# Altium schematic symbol library SchLib1.SchLib: 32 symbols
Pins are listed as number, name and electrical type; pins without a type are passive.

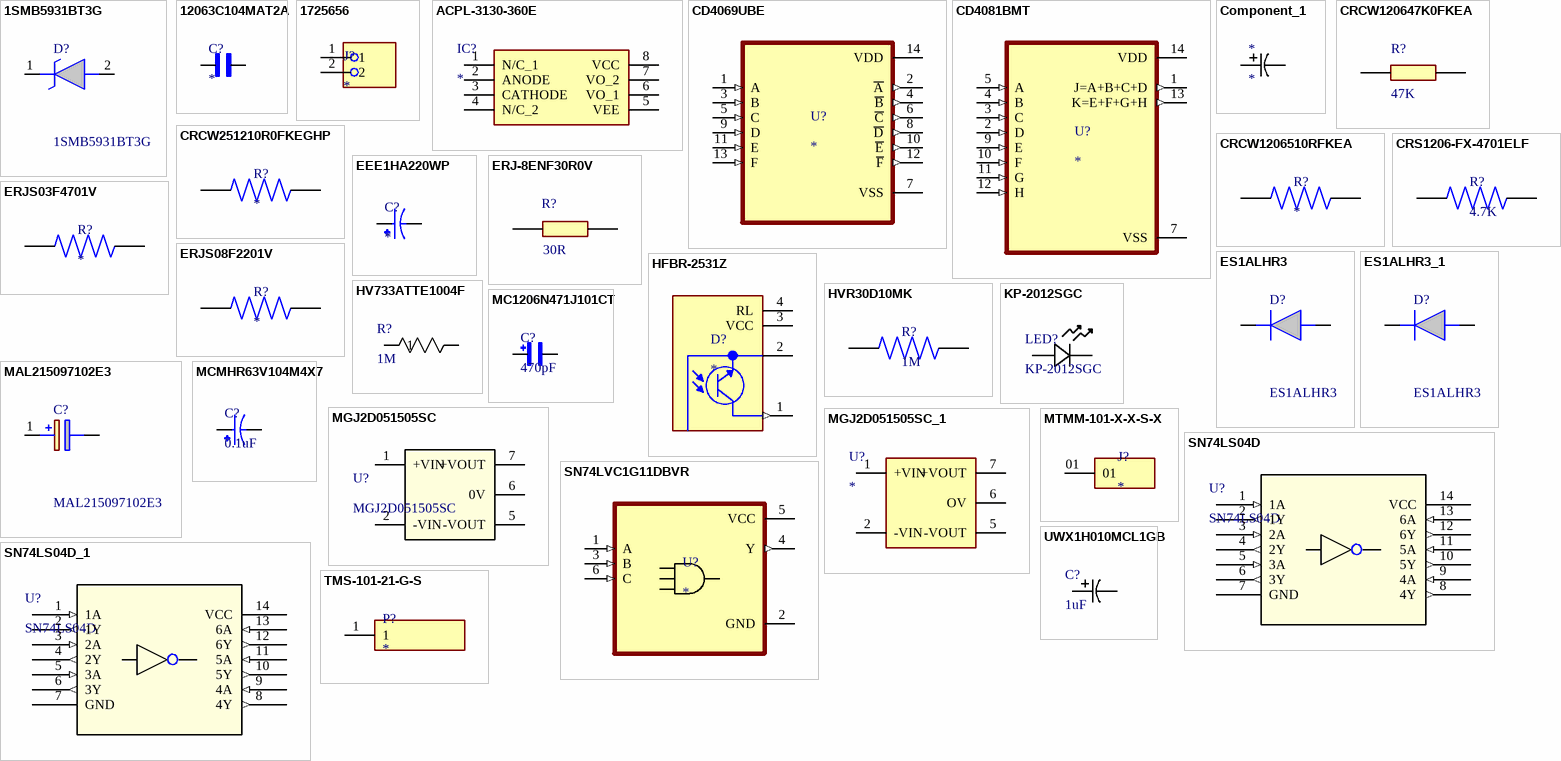
[diagram p0: symbols 1SMB5931BT3G to UWX1H010MCL1GB]

## 1SMB5931BT3G
designator D?
Zener Voltage Range - 3.3 V to 200 V; ESD Rating of Class 3 (>16 KV) per Human Body Model; Flat Handling Surface for Accurate Placement; Package Design for Top Side or Bottom Circuit Board Mounting Mechanical Characteristics:; CASE: Void-free, transfer-molded plastic; FINISH: All external surfaces are corrosion resistant with readily solderable leads; MAXIMUM CASE TEMPERATURE FOR SOLDERING PURPOSES: 260C for 10 seconds; LEADS: Modified L-Bend providing more contact area to bond pads; POLARITY: Cathode indi; Manufacturer_Name: onsemi; Geometry.Height: 2.47mm; Manufacturer_Part_Number: 1SMB5931BT3G; Mouser Part Number: 863-1SMB5931BT3G; Mouser Price/Stock: https://www.mouser.co.uk/ProductDetail/onsemi/1SMB5931BT3G?qs=vLkC5FC1VN903PRAv1AUyg%3D%3D; Arrow Part Number: 1SMB5931BT3G; Arrow Price/Stock: https://www.arrow.com/en/products/1smb5931bt3g/on-semiconductor?region=nac; Datasheet Link: https://www.onsemi.com/pub/Collateral/1SMB5913BT3-D.PDF
footprint DIOM5436X247N
pins: 1 K, 2 A

## 12063C104MAT2A
designator C?
0.1 ÂµF Â±20% 25V Ceramic Capacitor X7R 1206 (3216 Metric); MF: KYOCERA AVX; MP: 12063C104MAT2A; SnapEDA_Link: https://www.snapeda.com/parts/12063C104MAT2A/Kyocera/view-part/?ref=snap; Package: 3216 AVX; Value: *; Check_prices: https://www.snapeda.com/parts/12063C104MAT2A/Kyocera/view-part/?ref=eda
footprint CAPC3216X94N
pins: 1, 2

## 1725656
designator J?
Conn PC Terminal Block 2 POS 2.54mm Solder ST Thru-Hole 6A Cardboard
footprint PHOENIX_1725656
pins: 1, 2

## ACPL-3130-360E
designator IC?
Integrated Circuit; Manufacturer_Name: Avago Technologies; Manufacturer_Part_Number: ACPL-3130-360E; Datasheet Link: https://datasheet.datasheetarchive.com/originals/distributors/Datasheets-DGA20/76560.pdf; Height: 4.7mm; Mouser Part Number: 630-ACPL-3130-360E; Mouser Price/Stock: https://www.mouser.co.uk/ProductDetail/Broadcom-Avago/ACPL-3130-360E?qs=RuhU64sK2%252BvV1O6%252BbM9CBg%3D%3D
footprint DIP794W53P254L959H508Q8N
pins: 1 N/C_1, 2 ANODE, 3 CATHODE, 4 N/C_2, 5 VEE, 6 VO_1, 7 VO_2, 8 VCC

## CD4069UBE
designator U?
6-ch, 3-V to 18-V inverters; MF: Texas Instruments; MP: CD4069UBE; SnapEDA_Link: https://www.snapeda.com/parts/CD4069UBE/Texas+Instruments/view-part/?ref=snap; Package: PDIP-14 Texas Instruments; Value: *; Check_prices: https://www.snapeda.com/parts/CD4069UBE/Texas+Instruments/view-part/?ref=eda
footprint DIP794W45P254L1969H508Q14
pins: 1 A (in), 2 ~{A} (out), 3 B (in), 4 ~{B} (out), 5 C (in), 6 ~{C} (out), 7 VSS (power), 8 ~{D} (out), 9 D (in), 10 ~{E} (out), 11 E (in), 12 ~{F} (out), 13 F (in), 14 VDD (power)

## CD4081BMT
designator U?
4-ch, 2-input, 3-V to 18-V AND gates; MF: Texas Instruments; MP: CD4081BMT; SnapEDA_Link: https://www.snapeda.com/parts/CD4081BMT/Texas+Instruments/view-part/?ref=snap; Package: SOIC-14 Texas Instruments; Value: *; Check_prices: https://www.snapeda.com/parts/CD4081BMT/Texas+Instruments/view-part/?ref=eda
footprint SOIC127P600X175-14N
pins: 1 J=A+B+C+D (out), 2 D (in), 3 C (in), 4 B (in), 5 A (in), 7 VSS (power), 9 E (in), 10 F (in), 11 G (in), 12 H (in), 13 K=E+F+G+H (out), 14 VDD (power)

## Component_1
designator *
pins: 1, 2

## CRCW120647K0FKEA
designator R?, comment 47K
CRCW120647K0FKEAVishay CRCW Series Thick Film Surface Mount Resistor 1206 Case 47k +/-1% 0.25W +/-100ppm/C; Manufacturer_Name: Vishay; Geometry.Height: 0.6mm; Manufacturer_Part_Number: CRCW120647K0FKEA; Mouser Part Number: 71-CRCW1206-47K-E3; Mouser Price/Stock: https://www.mouser.co.uk/ProductDetail/Vishay-Dale/CRCW120647K0FKEA?qs=9sFvXT%252Bien1tefUS4L1XFw%3D%3D; Arrow Part Number: CRCW120647K0FKEA; Arrow Price/Stock: https://www.arrow.com/en/products/crcw120647k0fkea/vishay; Datasheet Link: http://www.vishay.com/docs/20035/dcrcwe3.pdf
footprint RESC3216X60N
pins: 1, 2

## CRCW251210R0FKEGHP
designator R?
10 Ohms Â±1% 1.5W Chip Resistor 2512 (6432 Metric) Automotive AEC-Q200, Pulse Withstanding Thick Film; MF: Vishay; MP: CRCW251210R0FKEGHP; SnapEDA_Link: https://www.snapeda.com/parts/CRCW251210R0FKEGHP/Vishay/view-part/?ref=snap; Package: 6331 Vishay; Value: *; Check_prices: https://www.snapeda.com/parts/CRCW251210R0FKEGHP/Vishay/view-part/?ref=eda
footprint RESC6331X70N
pins: 1, 2

## CRCW1206510RFKEA
designator R?
Resistor;Thick Film;510 Ohms;0.25 W;1%;SMT;1206;TCR 37 ppm/DegC;Tape and Reel | Vishay Dale CRCW1206510RFKEA; SnapEDA_Link: https://www.snapeda.com/parts/CRCW1206510RFKEA/Vishay/view-part/?ref=snap; Package: 3116 Vishay; Value: *; MF: Vishay; MP: CRCW1206510RFKEA; Check_prices: https://www.snapeda.com/parts/CRCW1206510RFKEA/Vishay/view-part/?ref=eda
footprint RESC3116X60N
pins: 1, 2

## CRS1206-FX-4701ELF
designator R?, comment 4.7K
RES, SMD, 4.7K ohm, 0.5W, 1%, 1206, TCR100 | Bourns CRS1206-FX-4701ELF; SnapEDA_Link: https://www.snapeda.com/parts/CRS1206-FX-4701ELF/Bourns/view-part/?ref=snap; Package: 3116 Bourns; Value: *; MF: Bourns; MP: CRS1206-FX-4701ELF; Check_prices: https://www.snapeda.com/parts/CRS1206-FX-4701ELF/Bourns/view-part/?ref=eda
footprint RESC3116X65N
pins: 1, 2

## EEE1HA220WP
designator C?
22ÂµF 50V Aluminum Electrolytic Capacitors Radial, Can - SMD 1000 Hrs @ 85Â°C; MF: Panasonic; MP: EEE1HA220WP; SnapEDA_Link: https://www.snapeda.com/parts/EEE1HA220WP/Panasonic/view-part/?ref=snap; Package: RADIAL-2 Panasonic; Value: *; Digi-Key_Part_Number: PCE3920TR-ND; Check_prices: https://www.snapeda.com/parts/EEE1HA220WP/Panasonic/view-part/?ref=eda
footprint CAP_EEE1HA220WP
pins: 1, 2

## ERJ-8ENF30R0V
designator R?, comment 30R
Thick Film Resistors - SMD 1206 30ohms 1% AEC-Q200ERJ-8ENF30R0V; Manufacturer_Name: Panasonic; Geometry.Height: 0.7mm; Manufacturer_Part_Number: ERJ-8ENF30R0V; Mouser Part Number: 667-ERJ-8ENF30R0V; Mouser Price/Stock: https://www.mouser.co.uk/ProductDetail/Panasonic/ERJ-8ENF30R0V?qs=8%252BG0TiN%2FgVqUsQIC4%252BVXug%3D%3D; Arrow Part Number: ERJ-8ENF30R0V; Arrow Price/Stock: https://www.arrow.com/en/products/erj-8enf30r0v/panasonic?region=nac; Datasheet Link: https://industrial.panasonic.com/cdbs/www-data/pdf/RDA0000/AOA0000C86.pdf
footprint ERJ8ENF1000V
pins: 1, 2

## ERJS03F4701V
designator R?
Res Thick Film 0603 4.7K Ohm 1% 0.1W(1/10W) Â}100ppm/C Sulfur Resistant Molded SMD Automotive Punched T/R; MF: Panasonic; MP: ERJS03F4701V; SnapEDA_Link: https://www.snapeda.com/parts/ERJS03F4701V/Panasonic/view-part/?ref=snap; Package: 1608-2 Panasonic; Value: *; Check_prices: https://www.snapeda.com/parts/ERJS03F4701V/Panasonic/view-part/?ref=eda
footprint RES_ERJS03F4701V
pins: 1, 2

## ERJS08F2201V
designator R?
MP: ERJS08F2201V; Price: None; Value: *; Package: None; Availability: Unavailable
footprint RES_ERJS08F2201V
pins: 1, 2

## ES1ALHR3
designator D?
Rectifiers 1A, 50V, SUPER FAST SM RECTIFIER; Manufacturer_Name: Taiwan Semiconductor; Geometry.Height: 1.43mm; Manufacturer_Part_Number: ES1ALHR3; Mouser Part Number: 821-ES1ALHR3; Mouser Price/Stock: https://www.mouser.co.uk/ProductDetail/Taiwan-Semiconductor/ES1ALHR3?qs=70cth9uAySfs%2F8RIhd19cA%3D%3D; Arrow Part Number: *; Arrow Price/Stock: *; Datasheet Link: https://componentsearchengine.com/Datasheets/1/ES1ALHR3.pdf
footprint DIOM4427X25M (Molded Diode, 2-Leads, Body 4.38x2.73mm, IPC Low Density)
pins: 1 K, 2 A

## ES1ALHR3_1
designator D?, comment ES1ALHR3
Rectifiers 1A, 50V, SUPER FAST SM RECTIFIER; Manufacturer_Name: Taiwan Semiconductor; Geometry.Height: 1.43mm; Manufacturer_Part_Number: ES1ALHR3; Mouser Part Number: 821-ES1ALHR3; Mouser Price/Stock: https://www.mouser.co.uk/ProductDetail/Taiwan-Semiconductor/ES1ALHR3?qs=70cth9uAySfs%2F8RIhd19cA%3D%3D; Arrow Part Number: *; Arrow Price/Stock: *; Datasheet Link: https://componentsearchengine.com/Datasheets/1/ES1ALHR3.pdf
footprint DIOM4427X25M (Molded Diode, 2-Leads, Body 4.38x2.73mm, IPC Low Density)
pins: 1 K, 2 A

## HFBR-2531Z
designator D?
Fiber Optic Receiver - 5MBd - 7V 10 mA; MF: Broadcom Limited; MP: HFBR-2531Z; SnapEDA_Link: https://www.snapeda.com/parts/HFBR-2531Z/Broadcom+Limited/view-part/?ref=snap; Package: None; Value: *; Check_prices: https://www.snapeda.com/parts/HFBR-2531Z/Broadcom+Limited/view-part/?ref=eda
footprint XDCR_HFBR-2531Z
pins: 1 VO (out), 2 GROUND (power), 3 VCC (power), 4 RL

## HV733ATTE1004F
designator R?, comment 1M
Resistencia SMD de Tipo Chip, 1 Mohm, ± 1%, 1 W, 2512 [Métrica 6432], Película Gruesa; Mfr_Name: KOA Speer
footprint RESC6331X70N
pins: 1, 2

## HVR30D10MK
designator R?, comment 1M
Resistor; 1M Ohms; MF: Vishay; MP: CRCW1206510RFKEA; SnapEDA_Link: https://www.snapeda.com/parts/CRCW1206510RFKEA/Vishay/view-part/?ref=snap; Package: 3116 Vishay; Value: *; Check_prices: https://www.snapeda.com/parts/CRCW1206510RFKEA/Vishay/view-part/?ref=eda
footprint RESAD2230W75L1750D650
pins: 1, 2

## KP-2012SGC
designator LED?
Description; Manufacturer_Name: Kingbright; Type: LED Indication; Copyright: Copyright (C) 2025 Ultra Librarian. All rights reserved.; Manufacturer_Part_Number: KP-2012SGC
footprint LED_KP-2012_KNB
pins: 1 CATHODE, 2 ANODE

## MAL215097102E3
designator C?
VISHAY - MAL215097102E3 - CAP, 220F, 50V, SMD; Geometry.Height: 14.3mm; Manufacturer_Name: Vishay; Manufacturer_Part_Number: MAL215097102E3; Mouser Part Number: 594-MAL215097102E3; Mouser Price/Stock: https://www.mouser.co.uk/ProductDetail/Vishay-BC-Components/MAL215097102E3?qs=qmStTZH4TznNa7zgwdGJWg%3D%3D; Arrow Part Number: MAL215097102E3; Arrow Price/Stock: https://www.arrow.com/en/products/mal215097102e3/vishay?region=europe; Datasheet Link: https://www.vishay.com/docs/28395/150crz.pdf
footprint CAPAE1050X1430N
pins: 1 +, 2 -

## MC1206N471J101CT
designator C?, comment 470pF
Cap Ceramic 470pF 100V C0G 5% Pad SMD 1206 125Â°C T/R; MF: KYOCERA AVX Components; MP: 12061A471JAT2A; SnapEDA_Link: https://www.snapeda.com/parts/12061A471JAT2A/Kyocera/view-part/?ref=snap; Package: 3216 AVX; Value: *; Check_prices: https://www.snapeda.com/parts/12061A471JAT2A/Kyocera/view-part/?ref=eda
footprint CAPC3216X94N
pins: 1, 2

## MCMHR63V104M4X7
designator C?, comment 0.1uF
CAP ALUM 0.1UF 20% 63V RADIAL
footprint MCMHR63V104M4X7
pins: N, P

## MGJ2D051505SC
designator U?
No Description Available; Mfr_Name: Murata; RefDes: RefDes; Type: Type
footprint MGJ2_MUR
pins: 1 +VIN, 2 -VIN, 5 -VOUT, 6 0V, 7 +VOUT

## MGJ2D051505SC_1
designator U?
Undefined or Miscellaneous; Manufacturer_Name: Murata Electronics; Manufacturer_Part_Number: MGJ2D051505SC; Datasheet Link: https://power.murata.com/datasheet?/data/power/ncl/kdc_mgj2.pdf; Height: 12mm; Mouser Part Number: 580-MGJ2D051505SC; Mouser Price/Stock: https://www.mouser.co.uk/ProductDetail/Murata-Power-Solutions/MGJ2D051505SC?qs=xLDY6iXSiQZoZsK%252BwBpeSQ%3D%3D; Arrow Part Number: MGJ2D051505SC; Arrow Price/Stock: https://www.arrow.com/en/products/mgj2d051505sc/murata-power-solutions?region=nac
footprint MGJ2D051505SC
pins: 1 +VIN, 2 -VIN, 5 -VOUT, 6 OV, 7 +VOUT

## MTMM-101-X-X-S-X
designator J?
Connector Header Through Hole 1 position; MF: Samtec; MP: MTMM-101-05-G-S-225; SnapEDA_Link: https://www.snapeda.com/parts/MTMM-101-05-G-S-225/Samtec/view-part/?ref=snap; Package: None; Value: *; Check_prices: https://www.snapeda.com/parts/MTMM-101-05-G-S-225/Samtec/view-part/?ref=eda
footprint SAMTEC_MTMM-101-X-X-S-X
pins: 01

## SN74LS04D
designator U?
Integrated Circuit; Mfr_Name: Texas Instruments; RefDes: RefDes; Type: Type
footprint D14
pins: 1 1A (in), 2 1Y (out), 3 2A (in), 4 2Y (out), 5 3A (in), 6 3Y (out), 7 GND (power), 8 4Y (out), 9 4A (in), 10 5Y (out), 11 5A (in), 12 6Y (out), 13 6A (in), 14 VCC (power)

## SN74LS04D_1
designator U?, comment SN74LS04D
Integrated Circuit; Mfr_Name: Texas Instruments; RefDes: RefDes; Type: Type
footprint SOIC127P600X175-14M (SOIC, 14-Leads, Body 8.65x3.90mm, Pitch 1.27mm, IPC Low Density)
pins: 1 1A (in), 2 1Y (out), 3 2A (in), 4 2Y (out), 5 3A (in), 6 3Y (out), 7 GND (power), 8 4Y (out), 9 4A (in), 10 5Y (out), 11 5A (in), 12 6Y (out), 13 6A (in), 14 VCC (power)

## SN74LVC1G11DBVR
designator U?
1-ch, 3-input 1.65-V to 5.5-V 32 mA drive strength AND gate; MF: Texas Instruments; MP: SN74LVC1G11DBVR; SnapEDA_Link: https://www.snapeda.com/parts/SN74LVC1G11DBVR/Texas+Instruments/view-part/?ref=snap; Package: SOT-23-6 Texas Instruments; Value: *; Check_prices: https://www.snapeda.com/parts/SN74LVC1G11DBVR/Texas+Instruments/view-part/?ref=eda
footprint SOT95P280X145-6N
pins: 1 A (in), 2 GND (power), 3 B (in), 4 Y (out), 5 VCC (power), 6 C (in)

## TMS-101-21-G-S
designator P?
Conn Macho
footprint SAMTEC_TMS-101-21-G-S
pins: 1

## UWX1H010MCL1GB
designator C?, comment 1uF
Capacitor 1uF; Mfr_Name: Nichicon
footprint CAPAE430X550N
pins: 1, 2